# EAGLE library part TPIC6C595N (library tpic6c595)
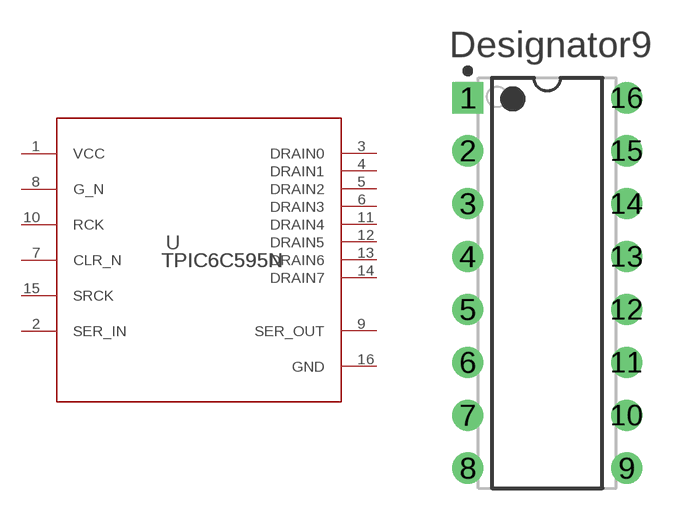
[diagram p0: symbol with the pads of N0016A; footprint N0016A]

Designator prefix U

## TPIC6C595N (MANUFACTURER: Texas Instruments; PARTNUMBER: TPIC6C595N; REFDES: RefDes; TYPE: TYPE; VALUE: Value)  [N0016A]
1  VCC  pwr
2  SER_IN  in
3  DRAIN0  oc
4  DRAIN1  oc
5  DRAIN2  oc
6  DRAIN3  oc
7  CLR_N  in
8  G_N  in
9  SER_OUT  out
10  RCK  in
11  DRAIN4  oc
12  DRAIN5  oc
13  DRAIN6  oc
14  DRAIN7  oc
15  SRCK  in
16  GND  pwr

## Footprint N0016A (pad centres in mm)
drill 0.889 pad 1.499 square: 1 -3.81,8.89
drill 0.889 pad 1.499: 2 -3.81,6.35; 3 -3.81,3.81; 4 -3.81,1.27; 5 -3.81,-1.27; 6 -3.81,-3.81; 7 -3.81,-6.35; 8 -3.81,-8.89; 9 3.81,-8.89; 10 3.81,-6.35; 11 3.81,-3.81; 12 3.81,-1.27; 13 3.81,1.27; 14 3.81,3.81; 15 3.81,6.35; 16 3.81,8.89